# Altium footprint library user_components_lib.PcbLib: 52 footprints (part 1 of 4)
Each footprint in its own frame and in the unit in brackets; x right, y up, seen from the top. Pads: shape width x height; smd on the part's side, far side on the other; paste and mask are expansions set on the pad; w line width, h text height; cw(c..) or ccw(c..) is an arc to the next point about the centre after c.
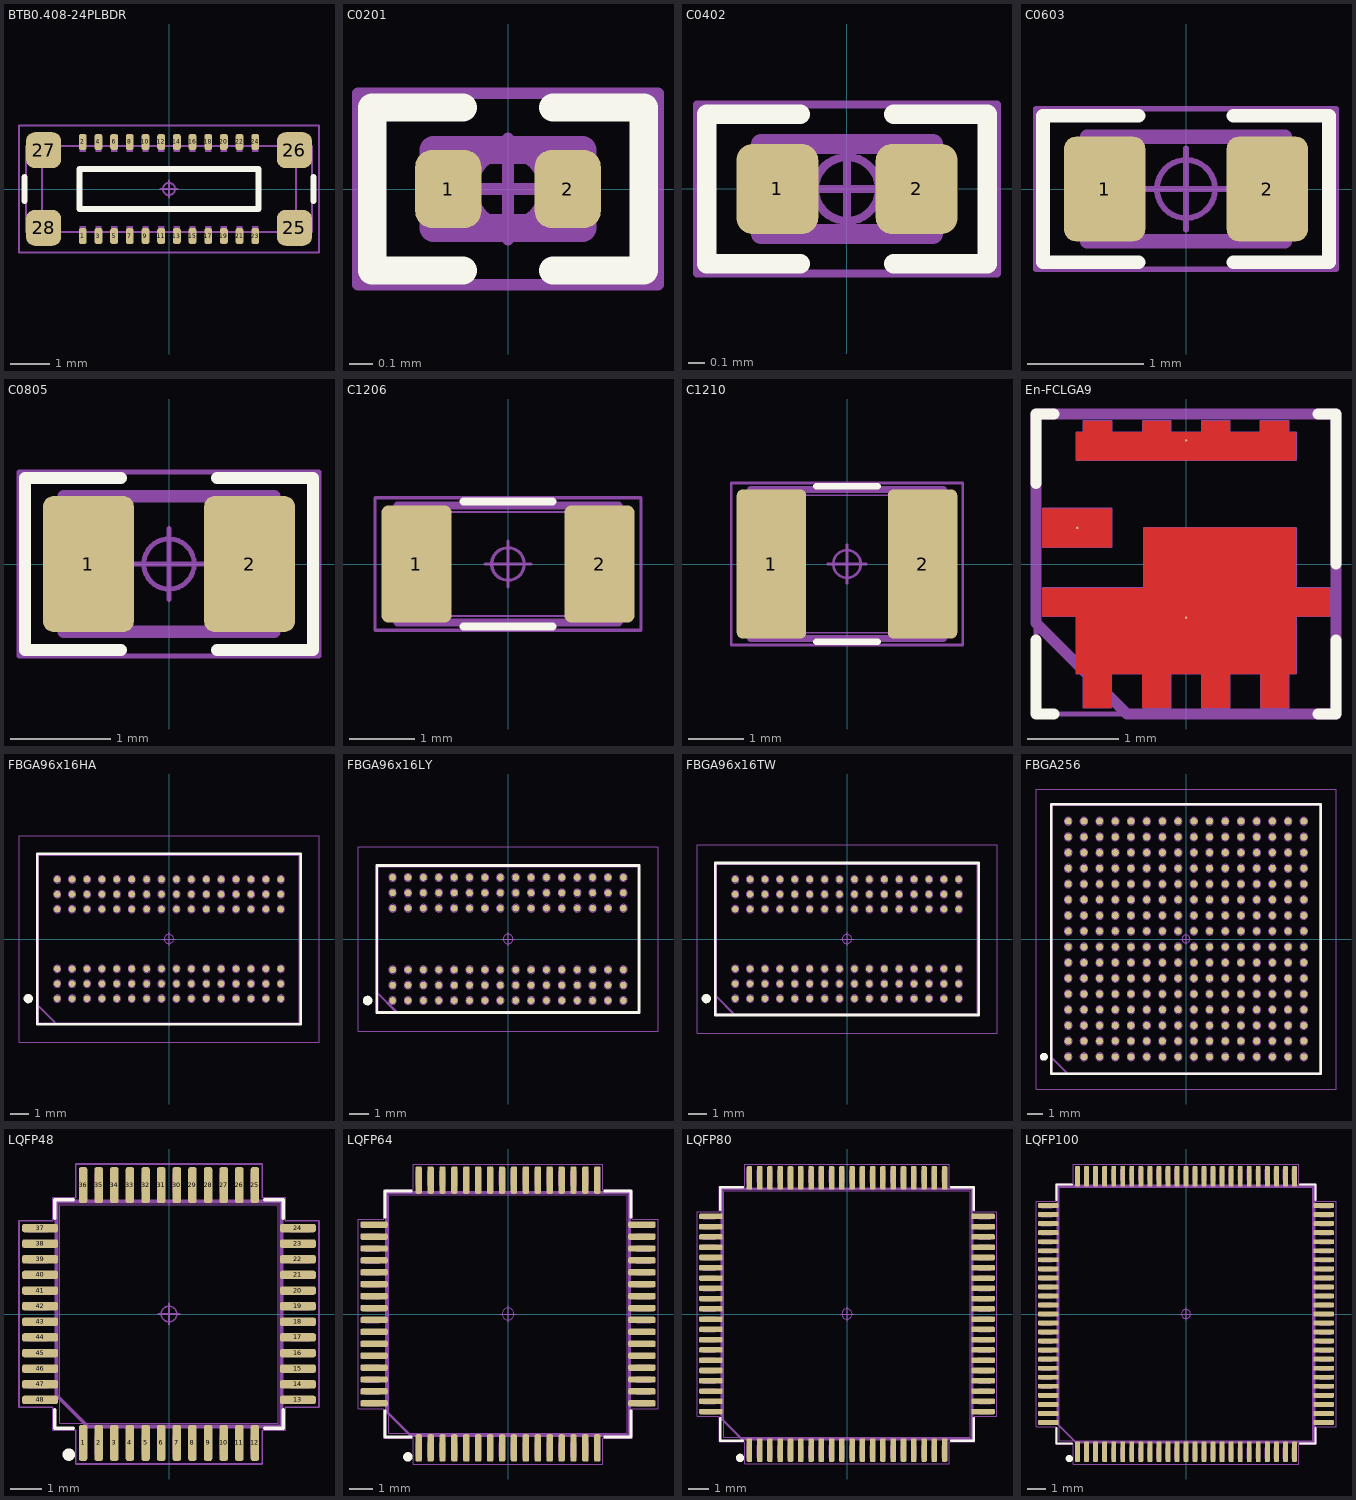
[diagram p0: the footprints below, top view; thin cyan lines are the x and y axes]

## BTB0.408-24PLBDR [mm]
pads (28):
  rrect50% 0.2x0.4 smd: 1(-2.2,-1.2) 2(-2.2,1.2) 3(-1.8,-1.2) 4(-1.8,1.2) 5(-1.4,-1.2) 6(-1.4,1.2) 7(-1,-1.2) 8(-1,1.2) 9(-0.6,-1.2) 10(-0.6,1.2) 11(-0.2,-1.2) 12(-0.2,1.2) 13(0.2,-1.2) 14(0.2,1.2) 15(0.6,-1.2) 16(0.6,1.2) 17(1,-1.2) 18(1,1.2) 19(1.4,-1.2) 20(1.4,1.2) 21(1.8,-1.2) 22(1.8,1.2) 23(2.2,-1.2) 24(2.2,1.2)
  rrect50% 0.9x0.92 smd: 25(3.2,-0.99) 26(3.2,0.99) 27(-3.2,0.99) 28(-3.2,-0.99)
Top Overlay:
  lines w0.152: -3.683,-0.301 -3.683,0.301 ; 3.683,-0.301 3.683,0.301 ; -2.286,-0.508 2.286,-0.508 2.286,0.508 -2.286,0.508 -2.286,-0.508
Mechanical 9:
  lines w0.051: -3.24,-1.1 -3.24,1.1 3.24,1.1 3.24,-1.1 -3.24,-1.1
  text ".Designator" at -1.126,-0.113 h0.5
Mechanical 11:
  text ".Designator" at -2.252,-0.226 h1
Mechanical 15:
  lines w0.05: -3.828,-0.405 -3.828,0.405 ; -3.828,-1.623 3.828,-1.623 ; -3.828,-1.623 3.828,-1.623 ; -3.828,-1.623 -3.828,1.623 3.828,1.623 3.828,-1.623
Mechanical 17:
  circle w0.05: c0,0 r0.155
  lines w0.05: -0.215,0 0.215,0 ; 0,-0.215 0,0.215
Mechanical 21:
  region: -3.25,1.24 -2.95,1.24 -2.95,0.74 -3.25,0.74
  region: -3.25,-0.74 -2.95,-0.74 -2.95,-1.24 -3.25,-1.24
  region: -2.275,0.95 -2.275,1.25 -2.125,1.25 -2.125,0.95
  region: -2.275,-1.25 -2.275,-0.95 -2.125,-0.95 -2.125,-1.25
  region: -1.875,0.95 -1.875,1.25 -1.725,1.25 -1.725,0.95
  region: -1.875,-1.25 -1.875,-0.95 -1.725,-0.95 -1.725,-1.25
  region: -1.475,0.95 -1.475,1.25 -1.325,1.25 -1.325,0.95
  region: -1.475,-1.25 -1.475,-0.95 -1.325,-0.95 -1.325,-1.25
  region: -1.075,0.95 -1.075,1.25 -0.925,1.25 -0.925,0.95
  region: -1.075,-1.25 -1.075,-0.95 -0.925,-0.95 -0.925,-1.25
  region: -0.675,0.95 -0.675,1.25 -0.525,1.25 -0.525,0.95
  region: -0.675,-1.25 -0.675,-0.95 -0.525,-0.95 -0.525,-1.25
  region: -0.275,0.95 -0.275,1.25 -0.125,1.25 -0.125,0.95
  region: -0.275,-1.25 -0.275,-0.95 -0.125,-0.95 -0.125,-1.25
  region: 0.125,0.95 0.125,1.25 0.275,1.25 0.275,0.95
  region: 0.125,-1.25 0.125,-0.95 0.275,-0.95 0.275,-1.25
  region: 0.525,0.95 0.525,1.25 0.675,1.25 0.675,0.95
  region: 0.525,-1.25 0.525,-0.95 0.675,-0.95 0.675,-1.25
  region: 0.925,0.95 0.925,1.25 1.075,1.25 1.075,0.95
  region: 0.925,-1.25 0.925,-0.95 1.075,-0.95 1.075,-1.25
  region: 1.325,0.95 1.325,1.25 1.475,1.25 1.475,0.95
  region: 1.325,-1.25 1.325,-0.95 1.475,-0.95 1.475,-1.25
  region: 1.725,0.95 1.725,1.25 1.875,1.25 1.875,0.95
  region: 1.725,-1.25 1.725,-0.95 1.875,-0.95 1.875,-1.25
  region: 2.125,0.95 2.125,1.25 2.275,1.25 2.275,0.95
  region: 2.125,-1.25 2.125,-0.95 2.275,-0.95 2.275,-1.25
  region: 2.95,-0.74 3.25,-0.74 3.25,-1.24 2.95,-1.24
  region: 2.95,1.24 3.25,1.24 3.25,0.74 2.95,0.74
  lines w0.051: -3.65,-1.1 -3.65,1.1 3.65,1.1 3.65,-1.1 -3.65,-1.1
3D body "BTB0.408-24PLBDR.STEP": height 0.81, standoff 0, extent -3.65,-1.25 3.65,1.25

## C0201 [mm]
height 0.33
pads (2):
  rrect50% 0.28x0.33 smd: 1(-0.253,0) 2(0.253,0)
Top Overlay:
  lines w0.12: -0.192,-0.345 -0.575,-0.345 -0.575,0.345 -0.192,0.345 ; 0.192,-0.345 0.575,-0.345 0.575,0.345 0.192,0.345
Mechanical 9:
  lines w0.12: -0.315,-0.165 0.315,-0.165 0.315,0.165 -0.315,0.165 -0.315,-0.165
  text ".Designator" at -1.126,-0.113 h0.5
Mechanical 11:
  text ".Designator" at -2.252,-0.226 h1
Mechanical 15:
  lines w0.05: -0.635,-0.405 0.635,-0.405 0.635,0.405 -0.635,0.405 -0.635,-0.405
Mechanical 17:
  circle w0.05: c0,0 r0.155
  lines w0.05: -0.215,0 0.215,0 ; 0,-0.215 0,0.215
Mechanical 21:
  lines w0.025: -0.3,-0.15 0.3,-0.15 ; -0.3,-0.15 -0.3,0.15 ; -0.3,-0.15 -0.3,0.15 ; -0.3,-0.15 -0.15,-0.15 -0.15,0.15 -0.3,0.15 ; -0.3,0.15 0.3,0.15 ; 0.3,-0.15 0.3,0.15 ; 0.3,-0.15 0.15,-0.15 0.15,0.15 0.3,0.15 ; 0.3,-0.15 0.3,0.15
3D body "C0201.STEP": height 0.33, standoff 0, extent -0.3,-0.15 0.3,0.15

## C0402 [mm]
height 0.55
pads (2):
  rrect40% 0.5x0.55 smd: 1(-0.425,0) 2(0.425,0)
Top Overlay:
  lines w0.12: -0.285,-0.455 -0.855,-0.455 -0.855,0.455 -0.285,0.455 ; 0.285,-0.455 0.855,-0.455 0.855,0.455 0.285,0.455
Mechanical 9:
  lines w0.12: -0.525,-0.275 -0.525,0.275 0.525,0.275 0.525,-0.275 -0.525,-0.275
  text ".Designator" at -1.126,-0.113 h0.5
Mechanical 11:
  text ".Designator" at -2.252,-0.226 h1
Mechanical 15:
  lines w0.05: -0.915,-0.515 -0.915,0.515 0.915,0.515 0.915,-0.515 -0.915,-0.515
Mechanical 17:
  circle w0.05: c0,0 r0.195
  lines w0.05: -0.27,0 0.27,0 ; 0,-0.27 0,0.27
Mechanical 21:
  lines w0.025: -0.5,-0.25 -0.25,-0.25 -0.25,0.25 -0.5,0.25 ; -0.5,-0.25 -0.5,0.25 ; -0.5,-0.25 -0.5,0.25 ; -0.5,-0.25 0.5,-0.25 ; -0.5,0.25 0.5,0.25 ; 0.5,-0.25 0.5,0.25 ; 0.5,-0.25 0.25,-0.25 0.25,0.25 0.5,0.25 ; 0.5,-0.25 0.5,0.25
3D body "C0402.STEP": height 0.55, standoff 0, extent -0.5,-0.25 0.5,0.25

## C0603 [mm]
height 0.9
pads (2):
  rrect29% 0.7x0.9 smd: 1(-0.7,0) 2(0.7,0)
Top Overlay:
  lines w0.12: -0.41,-0.63 -1.23,-0.63 -1.23,0.63 -0.41,0.63 ; 0.41,-0.63 1.23,-0.63 1.23,0.63 0.41,0.63
Mechanical 9:
  lines w0.12: -0.85,-0.45 -0.85,0.45 0.85,0.45 0.85,-0.45 -0.85,-0.45
  text ".Designator" at -1.126,-0.113 h0.5
Mechanical 11:
  text ".Designator" at -2.252,-0.226 h1
Mechanical 15:
  lines w0.05: -1.29,-0.69 -1.29,0.69 1.29,0.69 1.29,-0.69 -1.29,-0.69
Mechanical 17:
  circle w0.05: c0,0 r0.25
  lines w0.05: -0.35,0 0.35,0 ; 0,-0.35 0,0.35
Mechanical 21:
  lines w0.025: -0.8,-0.4 -0.5,-0.4 -0.5,0.4 -0.8,0.4 ; -0.8,-0.4 -0.8,0.4 ; -0.8,-0.4 -0.8,0.4 ; -0.8,-0.4 0.8,-0.4 ; -0.8,0.4 0.8,0.4 ; 0.8,-0.4 0.8,0.4 ; 0.8,-0.4 0.5,-0.4 0.5,0.4 0.8,0.4 ; 0.8,-0.4 0.8,0.4
3D body "C0603.STEP": height 0.9, standoff 0, extent -0.8,-0.4 0.8,0.4

## C0805 [mm]
height 1.35
pads (2):
  rrect22% 0.9x1.35 smd: 1(-0.8,0) 2(0.8,0)
Top Overlay:
  lines w0.12: -0.477,-0.855 -1.43,-0.855 -1.43,0.855 -0.477,0.855 ; 0.477,-0.855 1.43,-0.855 1.43,0.855 0.477,0.855
Mechanical 9:
  lines w0.12: -1.05,-0.675 1.05,-0.675 1.05,0.675 -1.05,0.675 -1.05,-0.675
  text ".Designator" at -1.961,-0.197 h0.87
Mechanical 11:
  text ".Designator" at -2.252,-0.226 h1
Mechanical 15:
  lines w0.05: -1.49,-0.915 1.49,-0.915 1.49,0.915 -1.49,0.915 -1.49,-0.915
Mechanical 17:
  circle w0.05: c0,0 r0.25
  lines w0.05: -0.35,0 0.35,0 ; 0,-0.35 0,0.35
Mechanical 21:
  lines w0.025: -1,-0.625 1,-0.625 ; -1,-0.625 -1,0.625 ; -1,-0.625 -1,0.625 ; -1,-0.625 -0.5,-0.625 -0.5,0.625 -1,0.625 ; -1,0.625 1,0.625 ; 1,-0.625 1,0.625 ; 1,-0.625 0.5,-0.625 0.5,0.625 1,0.625 ; 1,-0.625 1,0.625
3D body "C0805.STEP": height 1.35, standoff 0, extent -1,-0.625 1,0.625

## C1206 [mm]
height 1.8
pads (2):
  rrect19% 1.08x1.8 smd: 1(-1.408,0) 2(1.408,0)
Top Overlay:
  lines w0.12: -0.686,-0.96 0.686,-0.96 ; -0.686,0.96 0.686,0.96
Mechanical 9:
  lines w0.12: -1.7,-0.9 -1.7,0.9 1.7,0.9 1.7,-0.9 -1.7,-0.9
  text ".Designator" at -2.976,-0.299 h1.32
Mechanical 11:
  text ".Designator" at -2.252,-0.226 h1
Mechanical 15:
  lines w0.05: -2.048,-1.02 -2.048,1.02 2.048,1.02 2.048,-1.02 -2.048,-1.02
Mechanical 17:
  circle w0.05: c0,0 r0.25
  lines w0.05: -0.35,0 0.35,0 ; 0,-0.35 0,0.35
Mechanical 21:
  lines w0.025: -1.6,-0.8 -1.1,-0.8 -1.1,0.8 -1.6,0.8 ; -1.6,-0.8 -1.6,0.8 ; -1.6,-0.8 -1.6,0.8 ; -1.6,-0.8 1.6,-0.8 ; -1.6,0.8 1.6,0.8 ; 1.6,-0.8 1.6,0.8 ; 1.6,-0.8 1.1,-0.8 1.1,0.8 1.6,0.8 ; 1.6,-0.8 1.6,0.8
3D body "C1206.STEP": height 1.8, standoff 0, extent -1.6,-0.8 1.6,0.8

## C1210 [mm]
height 2.7
pads (2):
  rrect16% 1.26x2.7 smd: 1(-1.37,0) 2(1.37,0)
Top Overlay:
  lines w0.12: -0.56,-1.41 0.56,-1.41 ; -0.56,1.41 0.56,1.41
Mechanical 9:
  lines w0.12: -1.75,-1.35 -1.75,1.35 1.75,1.35 1.75,-1.35 -1.75,-1.35
  text ".Designator" at -4.511,-0.453 h2
Mechanical 11:
  text ".Designator" at -2.252,-0.226 h1
Mechanical 15:
  lines w0.05: -2.1,-1.47 -2.1,1.47 2.1,1.47 2.1,-1.47 -2.1,-1.47
Mechanical 17:
  circle w0.05: c0,0 r0.25
  lines w0.05: -0.35,0 0.35,0 ; 0,-0.35 0,0.35
Mechanical 21:
  lines w0.025: -1.6,-1.25 -1,-1.25 -1,1.25 -1.6,1.25 ; -1.6,-1.25 -1.6,1.25 ; -1.6,-1.25 -1.6,1.25 ; -1.6,-1.25 1.6,-1.25 ; -1.6,1.25 1.6,1.25 ; 1.6,-1.25 1.6,1.25 ; 1.6,-1.25 1,-1.25 1,1.25 1.6,1.25 ; 1.6,-1.25 1.6,1.25
3D body "C1210.STEP": height 2.7, standoff 0, extent -1.6,-1.25 1.6,1.25

## En-FCLGA9 [mil]
pads (3):
  round 1 smd: D(0,53.64) G(-47.15,15.75) S(0,-23.13)
Top Layer:
  region: -62.01,24.02 -32.28,24.02 -32.28,7.48 -62.01,7.48
  region: -18.14,15.75 -18.14,-10.43 -62.01,-10.43 -62.01,-22.24 -47.44,-22.24 -47.44,-47.24 -44.29,-47.24 -44.29,-62.01 -32.48,-62.01 -32.48,-47.24 -18.7,-47.24 -18.7,-62.01 -6.89,-62.01 -6.89,-47.24 6.89,-47.24 6.89,-62.01 18.7,-62.01 18.7,-47.24 32.48,-47.24 32.48,-62.01 44.29,-62.01 44.29,-47.24 47.44,-47.24 47.44,-22.24 62.01,-22.24 62.01,-10.43 47.44,-10.43 47.44,15.75
  region: -44.29,62.01 -44.29,57.09 -47.44,57.09 -47.44,45.28 47.44,45.28 47.44,57.09 44.29,57.09 44.29,62.01 32.28,62.01 32.28,57.09 18.7,57.09 18.7,62.01 6.89,62.01 6.89,57.09 -6.89,57.09 -6.89,62.01 -18.7,62.01 -18.7,57.09 -32.28,57.09 -32.28,62.01
  lines w0.5: -62.01,-22.24 -47.44,-22.24 -47.44,-47.24 -44.29,-47.24 -44.29,-62.01 -32.48,-62.01 -32.48,-47.24 -18.7,-47.24 -18.7,-62.01 -6.89,-62.01 -6.89,-47.24 6.89,-47.24 6.89,-62.01 18.7,-62.01 18.7,-47.24 32.48,-47.24 32.48,-62.01 44.29,-62.01 44.29,-47.24 47.44,-47.24 47.44,-22.24 62.01,-22.24 62.01,-10.43 47.44,-10.43 47.44,15.75 -18.14,15.75 -18.14,-10.43 -62.01,-10.43 -62.01,-22.24 ; -62.01,7.48 -32.28,7.48 -32.28,24.02 -62.01,24.02 -62.01,7.48 ; -47.44,45.28 47.44,45.28 47.44,57.09 44.29,57.09 44.29,62.01 32.28,62.01 32.28,57.09 18.7,57.09 18.7,62.01 6.89,62.01 6.89,57.09 -6.89,57.09 -6.89,62.01 -18.7,62.01 -18.7,57.09 -32.28,57.09 -32.28,62.01 -44.29,62.01 -44.29,57.09 -47.44,57.09 -47.44,45.28
Top Overlay:
  lines w4.72: -65.01,-32.79 -65.01,-64.85 -57.18,-64.85 ; -65.01,34.95 -65.01,65.07 -57.18,65.07 ; 57.09,-64.85 64.92,-64.85 64.92,-32.79 ; 57.09,65.07 64.92,65.07 64.92,0.11
Mechanical 9:
  lines w4.72: -65.01,-25.48 -65.01,65.07 64.92,65.07 64.92,-64.85 -25.64,-64.85 -65.01,-25.48
  text ".Designator" at -88.67,-8.9 h39.37
Mechanical 11:
  text ".Designator" at -88.67,-8.9 h39.37
Mechanical 15:
  lines w1.97: -65.01,-64.85 -65.01,65.07 64.92,65.07 64.92,-64.85 -65.01,-64.85
Mechanical 17:
  circle w1.97: c0,0 r9.84
  lines w1.97: -13.78,0 13.78,0 ; 0,-13.78 0,13.78
Mechanical 21:
  lines w0.98: -65.01,-64.85 -65.01,65.07 64.92,65.07 64.92,-64.85 -65.01,-64.85 ; -62.01,-22.24 -62.01,-10.43 -18.14,-10.43 -18.14,15.75 47.44,15.75 47.44,-10.43 62.01,-10.43 62.01,-22.24 47.44,-22.24 47.44,-47.24 44.29,-47.24 44.29,-62.01 32.48,-62.01 32.48,-47.24 18.7,-47.24 18.7,-62.01 6.89,-62.01 6.89,-47.24 -6.89,-47.24 -6.89,-62.01 -18.7,-62.01 -18.7,-47.24 -32.48,-47.24 -32.48,-62.01 -44.29,-62.01 -44.29,-47.24 -47.44,-47.24 -47.44,-22.24 -62.01,-22.24 ; -62.01,7.48 -62.01,24.02 -32.28,24.02 -32.28,7.48 -62.01,7.48 ; -47.44,45.28 -47.44,57.09 -44.29,57.09 -44.29,62.01 -32.28,62.01 -32.28,57.09 -18.7,57.09 -18.7,62.01 -6.89,62.01 -6.89,57.09 6.89,57.09 6.89,62.01 18.7,62.01 18.7,57.09 32.28,57.09 32.28,62.01 44.29,62.01 44.29,57.09 47.44,57.09 47.44,45.28 -47.44,45.28
3D body "En-FCLGA9.STEP": height 38.39, standoff 0.2, extent -65.55,-64.96 64.37,64.96

## FBGA96x16HA [mm] "Ball Grid Array (BGA), 0.80 mm pitch, rect.; 144 pin, 14.00 mm L X 9.00 mm W X 1.20 mm H body"
height 1.2
pads (96):
  round 0.35 smd: A1(-6,-3.2) A2(-6,-2.4) A3(-6,-1.6) A7(-6,1.6) A8(-6,2.4) A9(-6,3.2) B1(-5.2,-3.2) B2(-5.2,-2.4) B3(-5.2,-1.6) B7(-5.2,1.6) B8(-5.2,2.4) B9(-5.2,3.2) C1(-4.4,-3.2) C2(-4.4,-2.4) C3(-4.4,-1.6) C7(-4.4,1.6) C8(-4.4,2.4) C9(-4.4,3.2) D1(-3.6,-3.2) D2(-3.6,-2.4) D3(-3.6,-1.6) D7(-3.6,1.6) D8(-3.6,2.4) D9(-3.6,3.2) E1(-2.8,-3.2) E2(-2.8,-2.4) E3(-2.8,-1.6) E7(-2.8,1.6) E8(-2.8,2.4) E9(-2.8,3.2) F1(-2,-3.2) F2(-2,-2.4) F3(-2,-1.6) F7(-2,1.6) F8(-2,2.4) F9(-2,3.2) G1(-1.2,-3.2) G2(-1.2,-2.4) G3(-1.2,-1.6) G7(-1.2,1.6) G8(-1.2,2.4) G9(-1.2,3.2) H1(-0.4,-3.2) H2(-0.4,-2.4) H3(-0.4,-1.6) H7(-0.4,1.6) H8(-0.4,2.4) H9(-0.4,3.2) J1(0.4,-3.2) J2(0.4,-2.4) J3(0.4,-1.6) J7(0.4,1.6) J8(0.4,2.4) J9(0.4,3.2) K1(1.2,-3.2) K2(1.2,-2.4) K3(1.2,-1.6) K7(1.2,1.6) K8(1.2,2.4) K9(1.2,3.2) L1(2,-3.2) L2(2,-2.4) L3(2,-1.6) L7(2,1.6) L8(2,2.4) L9(2,3.2) M1(2.8,-3.2) M2(2.8,-2.4) M3(2.8,-1.6) M7(2.8,1.6) M8(2.8,2.4) M9(2.8,3.2) N1(3.6,-3.2) N2(3.6,-2.4) N3(3.6,-1.6) N7(3.6,1.6) N8(3.6,2.4) N9(3.6,3.2) P1(4.4,-3.2) P2(4.4,-2.4) P3(4.4,-1.6) P7(4.4,1.6) P8(4.4,2.4) P9(4.4,3.2) R1(5.2,-3.2) R2(5.2,-2.4) R3(5.2,-1.6) R7(5.2,1.6) R8(5.2,2.4) R9(5.2,3.2) T1(6,-3.2) T2(6,-2.4) T3(6,-1.6) T7(6,1.6) T8(6,2.4) T9(6,3.2)
Top Overlay:
  circle w0.25: c-7.55,-3.2 r0.125
  lines w0.15: -7.075,-4.575 7.075,-4.575 7.075,4.575 -7.075,4.575 -7.075,-4.575
Mechanical 9:
  lines w0.12: -7.05,-3.55 -7.05,4.55 7.05,4.55 7.05,-4.55 -6.05,-4.55 -7.05,-3.55
  text ".Designator" at -4.511,-0.453 h2
Mechanical 11:
  text ".Designator" at -2.704,-0.271 h1.2
Mechanical 15:
  lines w0.05: -8.05,-5.55 8.05,-5.55 8.05,5.55 -8.05,5.55 -8.05,-5.55
Mechanical 17:
  circle w0.05: c0,0 r0.25
  lines w0.05: -0.35,0 0.35,0 ; 0,-0.35 0,0.35
Mechanical 21:
  circle w0.025: c6,3.2 r0.2
  circle w0.025: c6,2.4 r0.2
  circle w0.025: c6,1.6 r0.2
  circle w0.025: c6,-1.6 r0.2
  circle w0.025: c6,-2.4 r0.2
  circle w0.025: c6,-3.2 r0.2
  circle w0.025: c5.2,3.2 r0.2
  circle w0.025: c5.2,2.4 r0.2
  circle w0.025: c5.2,1.6 r0.2
  circle w0.025: c5.2,-1.6 r0.2
  circle w0.025: c5.2,-2.4 r0.2
  circle w0.025: c5.2,-3.2 r0.2
  circle w0.025: c4.4,3.2 r0.2
  circle w0.025: c4.4,2.4 r0.2
  circle w0.025: c4.4,1.6 r0.2
  circle w0.025: c4.4,-1.6 r0.2
  circle w0.025: c4.4,-2.4 r0.2
  circle w0.025: c4.4,-3.2 r0.2
  circle w0.025: c3.6,3.2 r0.2
  circle w0.025: c3.6,2.4 r0.2
  circle w0.025: c3.6,1.6 r0.2
  circle w0.025: c3.6,-1.6 r0.2
  circle w0.025: c3.6,-2.4 r0.2
  circle w0.025: c3.6,-3.2 r0.2
  circle w0.025: c2.8,3.2 r0.2
  circle w0.025: c2.8,2.4 r0.2
  circle w0.025: c2.8,1.6 r0.2
  circle w0.025: c2.8,-1.6 r0.2
  circle w0.025: c2.8,-2.4 r0.2
  circle w0.025: c2.8,-3.2 r0.2
  circle w0.025: c2,3.2 r0.2
  circle w0.025: c2,2.4 r0.2
  circle w0.025: c2,1.6 r0.2
  circle w0.025: c2,-1.6 r0.2
  circle w0.025: c2,-2.4 r0.2
  circle w0.025: c2,-3.2 r0.2
  circle w0.025: c1.2,3.2 r0.2
  circle w0.025: c1.2,2.4 r0.2
  circle w0.025: c1.2,1.6 r0.2
  circle w0.025: c1.2,-1.6 r0.2
  circle w0.025: c1.2,-2.4 r0.2
  circle w0.025: c1.2,-3.2 r0.2
  circle w0.025: c0.4,3.2 r0.2
  circle w0.025: c0.4,2.4 r0.2
  circle w0.025: c0.4,1.6 r0.2
  circle w0.025: c0.4,-1.6 r0.2
  circle w0.025: c0.4,-2.4 r0.2
  circle w0.025: c0.4,-3.2 r0.2
  circle w0.025: c-0.4,3.2 r0.2
  circle w0.025: c-0.4,2.4 r0.2
  circle w0.025: c-0.4,1.6 r0.2
  circle w0.025: c-0.4,-1.6 r0.2
  circle w0.025: c-0.4,-2.4 r0.2
  circle w0.025: c-0.4,-3.2 r0.2
  circle w0.025: c-1.2,3.2 r0.2
  circle w0.025: c-1.2,2.4 r0.2
  circle w0.025: c-1.2,1.6 r0.2
  circle w0.025: c-1.2,-1.6 r0.2
  circle w0.025: c-1.2,-2.4 r0.2
  circle w0.025: c-1.2,-3.2 r0.2
  circle w0.025: c-2,3.2 r0.2
  circle w0.025: c-2,2.4 r0.2
  circle w0.025: c-2,1.6 r0.2
  circle w0.025: c-2,-1.6 r0.2
  circle w0.025: c-2,-2.4 r0.2
  circle w0.025: c-2,-3.2 r0.2
  circle w0.025: c-2.8,3.2 r0.2
  circle w0.025: c-2.8,2.4 r0.2
  circle w0.025: c-2.8,1.6 r0.2
  circle w0.025: c-2.8,-1.6 r0.2
  circle w0.025: c-2.8,-2.4 r0.2
  circle w0.025: c-2.8,-3.2 r0.2
  circle w0.025: c-3.6,3.2 r0.2
  circle w0.025: c-3.6,2.4 r0.2
  circle w0.025: c-3.6,1.6 r0.2
  circle w0.025: c-3.6,-1.6 r0.2
  circle w0.025: c-3.6,-2.4 r0.2
  circle w0.025: c-3.6,-3.2 r0.2
  circle w0.025: c-4.4,3.2 r0.2
  circle w0.025: c-4.4,2.4 r0.2
  circle w0.025: c-4.4,1.6 r0.2
  circle w0.025: c-4.4,-1.6 r0.2
  circle w0.025: c-4.4,-2.4 r0.2
  circle w0.025: c-4.4,-3.2 r0.2
  circle w0.025: c-5.2,3.2 r0.2
  circle w0.025: c-5.2,2.4 r0.2
  circle w0.025: c-5.2,1.6 r0.2
  circle w0.025: c-5.2,-1.6 r0.2
  circle w0.025: c-5.2,-2.4 r0.2
  circle w0.025: c-5.2,-3.2 r0.2
  circle w0.025: c-6,3.2 r0.2
  circle w0.025: c-6,2.4 r0.2
  circle w0.025: c-6,1.6 r0.2
  circle w0.025: c-6,-1.6 r0.2
  circle w0.025: c-6,-2.4 r0.2
  circle w0.025: c-6,-3.2 r0.2
  lines w0.025: -7,-4.5 7,-4.5 7,4.5 -7,4.5 -7,-4.5
3D body "FBGA96x16HA.STEP": height 1.2, standoff 0, extent -7,-4.5 7,4.5

## FBGA96x16LY [mm] "Ball Grid Array (BGA), 0.80 mm pitch, rect.; 144 pin, 13.50 mm L X 7.50 mm W X 1.20 mm H body"
height 1.2
pads (96):
  round 0.35 smd: A1(-6,-3.2) A2(-6,-2.4) A3(-6,-1.6) A7(-6,1.6) A8(-6,2.4) A9(-6,3.2) B1(-5.2,-3.2) B2(-5.2,-2.4) B3(-5.2,-1.6) B7(-5.2,1.6) B8(-5.2,2.4) B9(-5.2,3.2) C1(-4.4,-3.2) C2(-4.4,-2.4) C3(-4.4,-1.6) C7(-4.4,1.6) C8(-4.4,2.4) C9(-4.4,3.2) D1(-3.6,-3.2) D2(-3.6,-2.4) D3(-3.6,-1.6) D7(-3.6,1.6) D8(-3.6,2.4) D9(-3.6,3.2) E1(-2.8,-3.2) E2(-2.8,-2.4) E3(-2.8,-1.6) E7(-2.8,1.6) E8(-2.8,2.4) E9(-2.8,3.2) F1(-2,-3.2) F2(-2,-2.4) F3(-2,-1.6) F7(-2,1.6) F8(-2,2.4) F9(-2,3.2) G1(-1.2,-3.2) G2(-1.2,-2.4) G3(-1.2,-1.6) G7(-1.2,1.6) G8(-1.2,2.4) G9(-1.2,3.2) H1(-0.4,-3.2) H2(-0.4,-2.4) H3(-0.4,-1.6) H7(-0.4,1.6) H8(-0.4,2.4) H9(-0.4,3.2) J1(0.4,-3.2) J2(0.4,-2.4) J3(0.4,-1.6) J7(0.4,1.6) J8(0.4,2.4) J9(0.4,3.2) K1(1.2,-3.2) K2(1.2,-2.4) K3(1.2,-1.6) K7(1.2,1.6) K8(1.2,2.4) K9(1.2,3.2) L1(2,-3.2) L2(2,-2.4) L3(2,-1.6) L7(2,1.6) L8(2,2.4) L9(2,3.2) M1(2.8,-3.2) M2(2.8,-2.4) M3(2.8,-1.6) M7(2.8,1.6) M8(2.8,2.4) M9(2.8,3.2) N1(3.6,-3.2) N2(3.6,-2.4) N3(3.6,-1.6) N7(3.6,1.6) N8(3.6,2.4) N9(3.6,3.2) P1(4.4,-3.2) P2(4.4,-2.4) P3(4.4,-1.6) P7(4.4,1.6) P8(4.4,2.4) P9(4.4,3.2) R1(5.2,-3.2) R2(5.2,-2.4) R3(5.2,-1.6) R7(5.2,1.6) R8(5.2,2.4) R9(5.2,3.2) T1(6,-3.2) T2(6,-2.4) T3(6,-1.6) T7(6,1.6) T8(6,2.4) T9(6,3.2)
Top Overlay:
  circle w0.25: c-7.3,-3.2 r0.125
  lines w0.15: -6.825,-3.825 6.825,-3.825 6.825,3.825 -6.825,3.825 -6.825,-3.825
Mechanical 9:
  lines w0.12: -6.8,-2.8 -6.8,3.8 6.8,3.8 6.8,-3.8 -5.8,-3.8 -6.8,-2.8
  text ".Designator" at -4.511,-0.453 h2
Mechanical 11:
  text ".Designator" at -2.704,-0.271 h1.2
Mechanical 15:
  lines w0.05: -7.8,-4.8 7.8,-4.8 7.8,4.8 -7.8,4.8 -7.8,-4.8
Mechanical 17:
  circle w0.05: c0,0 r0.25
  lines w0.05: -0.35,0 0.35,0 ; 0,-0.35 0,0.35
Mechanical 21:
  circle w0.025: c6,3.2 r0.2
  circle w0.025: c6,2.4 r0.2
  circle w0.025: c6,1.6 r0.2
  circle w0.025: c6,-1.6 r0.2
  circle w0.025: c6,-2.4 r0.2
  circle w0.025: c6,-3.2 r0.2
  circle w0.025: c5.2,3.2 r0.2
  circle w0.025: c5.2,2.4 r0.2
  circle w0.025: c5.2,1.6 r0.2
  circle w0.025: c5.2,-1.6 r0.2
  circle w0.025: c5.2,-2.4 r0.2
  circle w0.025: c5.2,-3.2 r0.2
  circle w0.025: c4.4,3.2 r0.2
  circle w0.025: c4.4,2.4 r0.2
  circle w0.025: c4.4,1.6 r0.2
  circle w0.025: c4.4,-1.6 r0.2
  circle w0.025: c4.4,-2.4 r0.2
  circle w0.025: c4.4,-3.2 r0.2
  circle w0.025: c3.6,3.2 r0.2
  circle w0.025: c3.6,2.4 r0.2
  circle w0.025: c3.6,1.6 r0.2
  circle w0.025: c3.6,-1.6 r0.2
  circle w0.025: c3.6,-2.4 r0.2
  circle w0.025: c3.6,-3.2 r0.2
  circle w0.025: c2.8,3.2 r0.2
  circle w0.025: c2.8,2.4 r0.2
  circle w0.025: c2.8,1.6 r0.2
  circle w0.025: c2.8,-1.6 r0.2
  circle w0.025: c2.8,-2.4 r0.2
  circle w0.025: c2.8,-3.2 r0.2
  circle w0.025: c2,3.2 r0.2
  circle w0.025: c2,2.4 r0.2
  circle w0.025: c2,1.6 r0.2
  circle w0.025: c2,-1.6 r0.2
  circle w0.025: c2,-2.4 r0.2
  circle w0.025: c2,-3.2 r0.2
  circle w0.025: c1.2,3.2 r0.2
  circle w0.025: c1.2,2.4 r0.2
  circle w0.025: c1.2,1.6 r0.2
  circle w0.025: c1.2,-1.6 r0.2
  circle w0.025: c1.2,-2.4 r0.2
  circle w0.025: c1.2,-3.2 r0.2
  circle w0.025: c0.4,3.2 r0.2
  circle w0.025: c0.4,2.4 r0.2
  circle w0.025: c0.4,1.6 r0.2
  circle w0.025: c0.4,-1.6 r0.2
  circle w0.025: c0.4,-2.4 r0.2
  circle w0.025: c0.4,-3.2 r0.2
  circle w0.025: c-0.4,3.2 r0.2
  circle w0.025: c-0.4,2.4 r0.2
  circle w0.025: c-0.4,1.6 r0.2
  circle w0.025: c-0.4,-1.6 r0.2
  circle w0.025: c-0.4,-2.4 r0.2
  circle w0.025: c-0.4,-3.2 r0.2
  circle w0.025: c-1.2,3.2 r0.2
  circle w0.025: c-1.2,2.4 r0.2
  circle w0.025: c-1.2,1.6 r0.2
  circle w0.025: c-1.2,-1.6 r0.2
  circle w0.025: c-1.2,-2.4 r0.2
  circle w0.025: c-1.2,-3.2 r0.2
  circle w0.025: c-2,3.2 r0.2
  circle w0.025: c-2,2.4 r0.2
  circle w0.025: c-2,1.6 r0.2
  circle w0.025: c-2,-1.6 r0.2
  circle w0.025: c-2,-2.4 r0.2
  circle w0.025: c-2,-3.2 r0.2
  circle w0.025: c-2.8,3.2 r0.2
  circle w0.025: c-2.8,2.4 r0.2
  circle w0.025: c-2.8,1.6 r0.2
  circle w0.025: c-2.8,-1.6 r0.2
  circle w0.025: c-2.8,-2.4 r0.2
  circle w0.025: c-2.8,-3.2 r0.2
  circle w0.025: c-3.6,3.2 r0.2
  circle w0.025: c-3.6,2.4 r0.2
  circle w0.025: c-3.6,1.6 r0.2
  circle w0.025: c-3.6,-1.6 r0.2
  circle w0.025: c-3.6,-2.4 r0.2
  circle w0.025: c-3.6,-3.2 r0.2
  circle w0.025: c-4.4,3.2 r0.2
  circle w0.025: c-4.4,2.4 r0.2
  circle w0.025: c-4.4,1.6 r0.2
  circle w0.025: c-4.4,-1.6 r0.2
  circle w0.025: c-4.4,-2.4 r0.2
  circle w0.025: c-4.4,-3.2 r0.2
  circle w0.025: c-5.2,3.2 r0.2
  circle w0.025: c-5.2,2.4 r0.2
  circle w0.025: c-5.2,1.6 r0.2
  circle w0.025: c-5.2,-1.6 r0.2
  circle w0.025: c-5.2,-2.4 r0.2
  circle w0.025: c-5.2,-3.2 r0.2
  circle w0.025: c-6,3.2 r0.2
  circle w0.025: c-6,2.4 r0.2
  circle w0.025: c-6,1.6 r0.2
  circle w0.025: c-6,-1.6 r0.2
  circle w0.025: c-6,-2.4 r0.2
  circle w0.025: c-6,-3.2 r0.2
  lines w0.025: -6.75,-3.75 6.75,-3.75 6.75,3.75 -6.75,3.75 -6.75,-3.75
3D body "FBGA96x16LY.STEP": height 1.2, standoff 0, extent -6.75,-3.75 6.75,3.75

## FBGA96x16TW [mm] "Ball Grid Array (BGA), 0.80 mm pitch, rect.; 144 pin, 14.00 mm L X 8.00 mm W X 1.20 mm H body"
height 1.2
pads (96):
  round 0.35 smd: A1(-6,-3.2) A2(-6,-2.4) A3(-6,-1.6) A7(-6,1.6) A8(-6,2.4) A9(-6,3.2) B1(-5.2,-3.2) B2(-5.2,-2.4) B3(-5.2,-1.6) B7(-5.2,1.6) B8(-5.2,2.4) B9(-5.2,3.2) C1(-4.4,-3.2) C2(-4.4,-2.4) C3(-4.4,-1.6) C7(-4.4,1.6) C8(-4.4,2.4) C9(-4.4,3.2) D1(-3.6,-3.2) D2(-3.6,-2.4) D3(-3.6,-1.6) D7(-3.6,1.6) D8(-3.6,2.4) D9(-3.6,3.2) E1(-2.8,-3.2) E2(-2.8,-2.4) E3(-2.8,-1.6) E7(-2.8,1.6) E8(-2.8,2.4) E9(-2.8,3.2) F1(-2,-3.2) F2(-2,-2.4) F3(-2,-1.6) F7(-2,1.6) F8(-2,2.4) F9(-2,3.2) G1(-1.2,-3.2) G2(-1.2,-2.4) G3(-1.2,-1.6) G7(-1.2,1.6) G8(-1.2,2.4) G9(-1.2,3.2) H1(-0.4,-3.2) H2(-0.4,-2.4) H3(-0.4,-1.6) H7(-0.4,1.6) H8(-0.4,2.4) H9(-0.4,3.2) J1(0.4,-3.2) J2(0.4,-2.4) J3(0.4,-1.6) J7(0.4,1.6) J8(0.4,2.4) J9(0.4,3.2) K1(1.2,-3.2) K2(1.2,-2.4) K3(1.2,-1.6) K7(1.2,1.6) K8(1.2,2.4) K9(1.2,3.2) L1(2,-3.2) L2(2,-2.4) L3(2,-1.6) L7(2,1.6) L8(2,2.4) L9(2,3.2) M1(2.8,-3.2) M2(2.8,-2.4) M3(2.8,-1.6) M7(2.8,1.6) M8(2.8,2.4) M9(2.8,3.2) N1(3.6,-3.2) N2(3.6,-2.4) N3(3.6,-1.6) N7(3.6,1.6) N8(3.6,2.4) N9(3.6,3.2) P1(4.4,-3.2) P2(4.4,-2.4) P3(4.4,-1.6) P7(4.4,1.6) P8(4.4,2.4) P9(4.4,3.2) R1(5.2,-3.2) R2(5.2,-2.4) R3(5.2,-1.6) R7(5.2,1.6) R8(5.2,2.4) R9(5.2,3.2) T1(6,-3.2) T2(6,-2.4) T3(6,-1.6) T7(6,1.6) T8(6,2.4) T9(6,3.2)
Top Overlay:
  circle w0.25: c-7.55,-3.2 r0.125
  lines w0.15: -7.075,-4.075 7.075,-4.075 7.075,4.075 -7.075,4.075 -7.075,-4.075
Mechanical 9:
  lines w0.12: -7.05,-3.05 -7.05,4.05 7.05,4.05 7.05,-4.05 -6.05,-4.05 -7.05,-3.05
  text ".Designator" at -4.511,-0.453 h2
Mechanical 11:
  text ".Designator" at -2.704,-0.271 h1.2
Mechanical 15:
  lines w0.05: -8.05,-5.05 8.05,-5.05 8.05,5.05 -8.05,5.05 -8.05,-5.05
Mechanical 17:
  circle w0.05: c0,0 r0.25
  lines w0.05: -0.35,0 0.35,0 ; 0,-0.35 0,0.35
Mechanical 21:
  circle w0.025: c6,3.2 r0.2
  circle w0.025: c6,2.4 r0.2
  circle w0.025: c6,1.6 r0.2
  circle w0.025: c6,-1.6 r0.2
  circle w0.025: c6,-2.4 r0.2
  circle w0.025: c6,-3.2 r0.2
  circle w0.025: c5.2,3.2 r0.2
  circle w0.025: c5.2,2.4 r0.2
  circle w0.025: c5.2,1.6 r0.2
  circle w0.025: c5.2,-1.6 r0.2
  circle w0.025: c5.2,-2.4 r0.2
  circle w0.025: c5.2,-3.2 r0.2
  circle w0.025: c4.4,3.2 r0.2
  circle w0.025: c4.4,2.4 r0.2
  circle w0.025: c4.4,1.6 r0.2
  circle w0.025: c4.4,-1.6 r0.2
  circle w0.025: c4.4,-2.4 r0.2
  circle w0.025: c4.4,-3.2 r0.2
  circle w0.025: c3.6,3.2 r0.2
  circle w0.025: c3.6,2.4 r0.2
  circle w0.025: c3.6,1.6 r0.2
  circle w0.025: c3.6,-1.6 r0.2
  circle w0.025: c3.6,-2.4 r0.2
  circle w0.025: c3.6,-3.2 r0.2
  circle w0.025: c2.8,3.2 r0.2
  circle w0.025: c2.8,2.4 r0.2
  circle w0.025: c2.8,1.6 r0.2
  circle w0.025: c2.8,-1.6 r0.2
  circle w0.025: c2.8,-2.4 r0.2
  circle w0.025: c2.8,-3.2 r0.2
  circle w0.025: c2,3.2 r0.2
  circle w0.025: c2,2.4 r0.2
  circle w0.025: c2,1.6 r0.2
  circle w0.025: c2,-1.6 r0.2
  circle w0.025: c2,-2.4 r0.2
  circle w0.025: c2,-3.2 r0.2
  circle w0.025: c1.2,3.2 r0.2
  circle w0.025: c1.2,2.4 r0.2
  circle w0.025: c1.2,1.6 r0.2
  circle w0.025: c1.2,-1.6 r0.2
  circle w0.025: c1.2,-2.4 r0.2
  circle w0.025: c1.2,-3.2 r0.2
  circle w0.025: c0.4,3.2 r0.2
  circle w0.025: c0.4,2.4 r0.2
  circle w0.025: c0.4,1.6 r0.2
  circle w0.025: c0.4,-1.6 r0.2
  circle w0.025: c0.4,-2.4 r0.2
  circle w0.025: c0.4,-3.2 r0.2
  circle w0.025: c-0.4,3.2 r0.2
  circle w0.025: c-0.4,2.4 r0.2
  circle w0.025: c-0.4,1.6 r0.2
  circle w0.025: c-0.4,-1.6 r0.2
  circle w0.025: c-0.4,-2.4 r0.2
  circle w0.025: c-0.4,-3.2 r0.2
  circle w0.025: c-1.2,3.2 r0.2
  circle w0.025: c-1.2,2.4 r0.2
  circle w0.025: c-1.2,1.6 r0.2
  circle w0.025: c-1.2,-1.6 r0.2
  circle w0.025: c-1.2,-2.4 r0.2
  circle w0.025: c-1.2,-3.2 r0.2
  circle w0.025: c-2,3.2 r0.2
  circle w0.025: c-2,2.4 r0.2
  circle w0.025: c-2,1.6 r0.2
  circle w0.025: c-2,-1.6 r0.2
  circle w0.025: c-2,-2.4 r0.2
  circle w0.025: c-2,-3.2 r0.2
  circle w0.025: c-2.8,3.2 r0.2
  circle w0.025: c-2.8,2.4 r0.2
  circle w0.025: c-2.8,1.6 r0.2
  circle w0.025: c-2.8,-1.6 r0.2
  circle w0.025: c-2.8,-2.4 r0.2
  circle w0.025: c-2.8,-3.2 r0.2
  circle w0.025: c-3.6,3.2 r0.2
  circle w0.025: c-3.6,2.4 r0.2
  circle w0.025: c-3.6,1.6 r0.2
  circle w0.025: c-3.6,-1.6 r0.2
  circle w0.025: c-3.6,-2.4 r0.2
  circle w0.025: c-3.6,-3.2 r0.2
  circle w0.025: c-4.4,3.2 r0.2
  circle w0.025: c-4.4,2.4 r0.2
  circle w0.025: c-4.4,1.6 r0.2
  circle w0.025: c-4.4,-1.6 r0.2
  circle w0.025: c-4.4,-2.4 r0.2
  circle w0.025: c-4.4,-3.2 r0.2
  circle w0.025: c-5.2,3.2 r0.2
  circle w0.025: c-5.2,2.4 r0.2
  circle w0.025: c-5.2,1.6 r0.2
  circle w0.025: c-5.2,-1.6 r0.2
  circle w0.025: c-5.2,-2.4 r0.2
  circle w0.025: c-5.2,-3.2 r0.2
  circle w0.025: c-6,3.2 r0.2
  circle w0.025: c-6,2.4 r0.2
  circle w0.025: c-6,1.6 r0.2
  circle w0.025: c-6,-1.6 r0.2
  circle w0.025: c-6,-2.4 r0.2
  circle w0.025: c-6,-3.2 r0.2
  lines w0.025: -7,-4 7,-4 7,4 -7,4 -7,-4
3D body "FBGA96x16TW.STEP": height 1.2, standoff 0, extent -7,-4 7,4

## FBGA256 [mm] "Ball Grid Array (BGA), 1.00 mm pitch, square; 256 pin, 17.00 mm L X 17.00 mm W X 1.55 mm H body"
height 1.55
pads (256):
  round 0.45 smd: A1(-7.5,-7.5) A2(-7.5,-6.5) A3(-7.5,-5.5) A4(-7.5,-4.5) A5(-7.5,-3.5) A6(-7.5,-2.5) A7(-7.5,-1.5) A8(-7.5,-0.5) A9(-7.5,0.5) A10(-7.5,1.5) A11(-7.5,2.5) A12(-7.5,3.5) A13(-7.5,4.5) A14(-7.5,5.5) A15(-7.5,6.5) A16(-7.5,7.5) B1(-6.5,-7.5) B2(-6.5,-6.5) B3(-6.5,-5.5) B4(-6.5,-4.5) B5(-6.5,-3.5) B6(-6.5,-2.5) B7(-6.5,-1.5) B8(-6.5,-0.5) B9(-6.5,0.5) B10(-6.5,1.5) B11(-6.5,2.5) B12(-6.5,3.5) B13(-6.5,4.5) B14(-6.5,5.5) B15(-6.5,6.5) B16(-6.5,7.5) C1(-5.5,-7.5) C2(-5.5,-6.5) C3(-5.5,-5.5) C4(-5.5,-4.5) C5(-5.5,-3.5) C6(-5.5,-2.5) C7(-5.5,-1.5) C8(-5.5,-0.5) C9(-5.5,0.5) C10(-5.5,1.5) C11(-5.5,2.5) C12(-5.5,3.5) C13(-5.5,4.5) C14(-5.5,5.5) C15(-5.5,6.5) C16(-5.5,7.5) D1(-4.5,-7.5) D2(-4.5,-6.5) D3(-4.5,-5.5) D4(-4.5,-4.5) D5(-4.5,-3.5) D6(-4.5,-2.5) D7(-4.5,-1.5) D8(-4.5,-0.5) D9(-4.5,0.5) D10(-4.5,1.5) D11(-4.5,2.5) D12(-4.5,3.5) D13(-4.5,4.5) D14(-4.5,5.5) D15(-4.5,6.5) D16(-4.5,7.5) E1(-3.5,-7.5) E2(-3.5,-6.5) E3(-3.5,-5.5) E4(-3.5,-4.5) E5(-3.5,-3.5) E6(-3.5,-2.5) E7(-3.5,-1.5) E8(-3.5,-0.5) E9(-3.5,0.5) E10(-3.5,1.5) E11(-3.5,2.5) E12(-3.5,3.5) E13(-3.5,4.5) E14(-3.5,5.5) E15(-3.5,6.5) E16(-3.5,7.5) F1(-2.5,-7.5) F2(-2.5,-6.5) F3(-2.5,-5.5) F4(-2.5,-4.5) F5(-2.5,-3.5) F6(-2.5,-2.5) F7(-2.5,-1.5) F8(-2.5,-0.5) F9(-2.5,0.5) F10(-2.5,1.5) F11(-2.5,2.5) F12(-2.5,3.5) F13(-2.5,4.5) F14(-2.5,5.5) F15(-2.5,6.5) F16(-2.5,7.5) G1(-1.5,-7.5) G2(-1.5,-6.5) G3(-1.5,-5.5) G4(-1.5,-4.5) G5(-1.5,-3.5) G6(-1.5,-2.5) G7(-1.5,-1.5) G8(-1.5,-0.5) G9(-1.5,0.5) G10(-1.5,1.5) G11(-1.5,2.5) G12(-1.5,3.5) G13(-1.5,4.5) G14(-1.5,5.5) G15(-1.5,6.5) G16(-1.5,7.5) H1(-0.5,-7.5) H2(-0.5,-6.5) H3(-0.5,-5.5) H4(-0.5,-4.5) H5(-0.5,-3.5) H6(-0.5,-2.5) H7(-0.5,-1.5) H8(-0.5,-0.5) H9(-0.5,0.5) H10(-0.5,1.5) H11(-0.5,2.5) H12(-0.5,3.5) H13(-0.5,4.5) H14(-0.5,5.5) H15(-0.5,6.5) H16(-0.5,7.5) J1(0.5,-7.5) J2(0.5,-6.5) J3(0.5,-5.5) J4(0.5,-4.5) J5(0.5,-3.5) J6(0.5,-2.5) J7(0.5,-1.5) J8(0.5,-0.5) J9(0.5,0.5) J10(0.5,1.5) J11(0.5,2.5) J12(0.5,3.5) J13(0.5,4.5) J14(0.5,5.5) J15(0.5,6.5) J16(0.5,7.5) K1(1.5,-7.5) K2(1.5,-6.5) K3(1.5,-5.5) K4(1.5,-4.5) K5(1.5,-3.5) K6(1.5,-2.5) K7(1.5,-1.5) K8(1.5,-0.5) K9(1.5,0.5) K10(1.5,1.5) K11(1.5,2.5) K12(1.5,3.5) K13(1.5,4.5) K14(1.5,5.5) K15(1.5,6.5) K16(1.5,7.5) L1(2.5,-7.5) L2(2.5,-6.5) L3(2.5,-5.5) L4(2.5,-4.5) L5(2.5,-3.5) L6(2.5,-2.5) L7(2.5,-1.5) L8(2.5,-0.5) L9(2.5,0.5) L10(2.5,1.5) L11(2.5,2.5) L12(2.5,3.5) L13(2.5,4.5) L14(2.5,5.5) L15(2.5,6.5) L16(2.5,7.5) M1(3.5,-7.5) M2(3.5,-6.5) M3(3.5,-5.5) M4(3.5,-4.5) M5(3.5,-3.5) M6(3.5,-2.5) M7(3.5,-1.5) M8(3.5,-0.5) M9(3.5,0.5) M10(3.5,1.5) M11(3.5,2.5) M12(3.5,3.5) M13(3.5,4.5) M14(3.5,5.5) M15(3.5,6.5) M16(3.5,7.5) N1(4.5,-7.5) N2(4.5,-6.5) N3(4.5,-5.5) N4(4.5,-4.5) N5(4.5,-3.5) N6(4.5,-2.5) N7(4.5,-1.5) N8(4.5,-0.5) N9(4.5,0.5) N10(4.5,1.5) N11(4.5,2.5) N12(4.5,3.5) N13(4.5,4.5) N14(4.5,5.5) N15(4.5,6.5) N16(4.5,7.5) P1(5.5,-7.5) P2(5.5,-6.5) P3(5.5,-5.5) P4(5.5,-4.5) P5(5.5,-3.5) P6(5.5,-2.5) P7(5.5,-1.5) P8(5.5,-0.5) P9(5.5,0.5) P10(5.5,1.5) P11(5.5,2.5) P12(5.5,3.5) P13(5.5,4.5) P14(5.5,5.5) P15(5.5,6.5) P16(5.5,7.5) R1(6.5,-7.5) R2(6.5,-6.5) R3(6.5,-5.5) R4(6.5,-4.5) R5(6.5,-3.5) R6(6.5,-2.5) R7(6.5,-1.5) R8(6.5,-0.5) R9(6.5,0.5) R10(6.5,1.5) R11(6.5,2.5) R12(6.5,3.5) R13(6.5,4.5) R14(6.5,5.5) R15(6.5,6.5) R16(6.5,7.5) T1(7.5,-7.5) T2(7.5,-6.5) T3(7.5,-5.5) T4(7.5,-4.5) T5(7.5,-3.5) T6(7.5,-2.5) T7(7.5,-1.5) T8(7.5,-0.5) T9(7.5,0.5) T10(7.5,1.5) T11(7.5,2.5) T12(7.5,3.5) T13(7.5,4.5) T14(7.5,5.5) T15(7.5,6.5) T16(7.5,7.5)
Top Overlay:
  circle w0.25: c-9.05,-7.5 r0.125
  lines w0.15: -8.575,-8.575 -8.575,8.575 8.575,8.575 8.575,-8.575 -8.575,-8.575
Mechanical 9:
  lines w0.12: -8.55,-7.55 -7.55,-8.55 8.55,-8.55 8.55,8.55 -8.55,8.55 -8.55,-7.55
  text ".Designator" at -4.511,-0.453 h2
Mechanical 11:
  text ".Designator" at -2.704,-0.271 h1.2
Mechanical 15:
  lines w0.05: -9.55,-9.55 -9.55,9.55 9.55,9.55 9.55,-9.55 -9.55,-9.55
Mechanical 17:
  circle w0.05: c0,0 r0.25
  lines w0.05: -0.35,0 0.35,0 ; 0,-0.35 0,0.35
Mechanical 21:
  drawing of 260 lines, arcs and shapes, not listed
3D body "FBGA256.STEP": height 1.55, standoff 0, extent -8.5,-8.5 8.5,8.5

## LQFP48 [mm] "Quad Flat Pack (QFP), 0.50 mm pitch; 48 pin, square, 12 pin X 12 pin, 7.00 mm L X 7.00 mm W X 1.60 mm H body"
height 1.6
pads (48):
  rrect52% 0.27x1.15 smd: 1(-2.75,-4.125) 2(-2.25,-4.125) 3(-1.75,-4.125) 4(-1.25,-4.125) 5(-0.75,-4.125) 6(-0.25,-4.125) 7(0.25,-4.125) 8(0.75,-4.125) 9(1.25,-4.125) 10(1.75,-4.125) 11(2.25,-4.125) 12(2.75,-4.125) 25(2.75,4.125) 26(2.25,4.125) 27(1.75,4.125) 28(1.25,4.125) 29(0.75,4.125) 30(0.25,4.125) 31(-0.25,4.125) 32(-0.75,4.125) 33(-1.25,4.125) 34(-1.75,4.125) 35(-2.25,4.125) 36(-2.75,4.125)
  rrect52% 1.15x0.27 smd: 13(4.125,-2.75) 14(4.125,-2.25) 15(4.125,-1.75) 16(4.125,-1.25) 17(4.125,-0.75) 18(4.125,-0.25) 19(4.125,0.25) 20(4.125,0.75) 21(4.125,1.25) 22(4.125,1.75) 23(4.125,2.25) 24(4.125,2.75) 37(-4.125,2.75) 38(-4.125,2.25) 39(-4.125,1.75) 40(-4.125,1.25) 41(-4.125,0.75) 42(-4.125,0.25) 43(-4.125,-0.25) 44(-4.125,-0.75) 45(-4.125,-1.25) 46(-4.125,-1.75) 47(-4.125,-2.25) 48(-4.125,-2.75)
Top Overlay:
  circle w0.2: c-3.205,-4.5 r0.1
  lines w0.12: -3.66,-3.065 -3.66,-3.66 -3.065,-3.66 ; -3.66,3.065 -3.66,3.66 -3.065,3.66 ; 3.065,-3.66 3.66,-3.66 3.66,-3.065 ; 3.065,3.66 3.66,3.66 3.66,3.065
Mechanical 9:
  lines w0.12: -3.6,-2.6 -3.6,3.6 3.6,3.6 3.6,-3.6 -2.6,-3.6 -3.6,-2.6
  text ".Designator" at -4.511,-0.453 h2
Mechanical 11:
  text ".Designator" at -2.252,-0.226 h1
Mechanical 15:
  lines w0.05: -4.8,-2.985 -3.72,-2.985 -3.72,-3.72 -2.985,-3.72 -2.985,-4.8 2.985,-4.8 2.985,-3.72 3.72,-3.72 3.72,-2.985 4.8,-2.985 4.8,2.985 3.72,2.985 3.72,3.72 2.985,3.72 2.985,4.8 -2.985,4.8 -2.985,3.72 -3.72,3.72 -3.72,2.985 -4.8,2.985 -4.8,-2.985
Mechanical 17:
  circle w0.05: c0,0 r0.25
  lines w0.05: -0.35,0 0.35,0 ; 0,-0.35 0,0.35
Mechanical 21:
  drawing of 196 lines, arcs and shapes, not listed
3D body "LQFP48.STEP": height 1.6, standoff 0, extent -4.5,-4.5 4.5,4.5

## LQFP64 [mm] "Quad Flat Pack (QFP), 0.50 mm pitch; 64 pin, square, 16 pin X 16 pin, 10.00 mm L X 10.00 mm W X 1.60 mm H body"
height 1.6
pads (64):
  rrect52% 0.27x1.15 smd: 1(-3.75,-5.625) 2(-3.25,-5.625) 3(-2.75,-5.625) 4(-2.25,-5.625) 5(-1.75,-5.625) 6(-1.25,-5.625) 7(-0.75,-5.625) 8(-0.25,-5.625) 9(0.25,-5.625) 10(0.75,-5.625) 11(1.25,-5.625) 12(1.75,-5.625) 13(2.25,-5.625) 14(2.75,-5.625) 15(3.25,-5.625) 16(3.75,-5.625) 33(3.75,5.625) 34(3.25,5.625) 35(2.75,5.625) 36(2.25,5.625) 37(1.75,5.625) 38(1.25,5.625) 39(0.75,5.625) 40(0.25,5.625) 41(-0.25,5.625) 42(-0.75,5.625) 43(-1.25,5.625) 44(-1.75,5.625) 45(-2.25,5.625) 46(-2.75,5.625) 47(-3.25,5.625) 48(-3.75,5.625)
  rrect52% 1.15x0.27 smd: 17(5.625,-3.75) 18(5.625,-3.25) 19(5.625,-2.75) 20(5.625,-2.25) 21(5.625,-1.75) 22(5.625,-1.25) 23(5.625,-0.75) 24(5.625,-0.25) 25(5.625,0.25) 26(5.625,0.75) 27(5.625,1.25) 28(5.625,1.75) 29(5.625,2.25) 30(5.625,2.75) 31(5.625,3.25) 32(5.625,3.75) 49(-5.625,3.75) 50(-5.625,3.25) 51(-5.625,2.75) 52(-5.625,2.25) 53(-5.625,1.75) 54(-5.625,1.25) 55(-5.625,0.75) 56(-5.625,0.25) 57(-5.625,-0.25) 58(-5.625,-0.75) 59(-5.625,-1.25) 60(-5.625,-1.75) 61(-5.625,-2.25) 62(-5.625,-2.75) 63(-5.625,-3.25) 64(-5.625,-3.75)
Top Overlay:
  circle w0.2: c-4.205,-6 r0.1
  lines w0.12: -5.16,-4.065 -5.16,-5.16 -4.065,-5.16 ; -5.16,4.065 -5.16,5.16 -4.065,5.16 ; 4.065,-5.16 5.16,-5.16 5.16,-4.065 ; 4.065,5.16 5.16,5.16 5.16,4.065
Mechanical 9:
  lines w0.12: -5.1,-4.1 -5.1,5.1 5.1,5.1 5.1,-5.1 -4.1,-5.1 -5.1,-4.1
  text ".Designator" at -4.511,-0.453 h2
Mechanical 11:
  text ".Designator" at -2.252,-0.226 h1
Mechanical 15:
  lines w0.05: -6.3,-3.985 -5.22,-3.985 -5.22,-5.22 -3.985,-5.22 -3.985,-6.3 3.985,-6.3 3.985,-5.22 5.22,-5.22 5.22,-3.985 6.3,-3.985 6.3,3.985 5.22,3.985 5.22,5.22 3.985,5.22 3.985,6.3 -3.985,6.3 -3.985,5.22 -5.22,5.22 -5.22,3.985 -6.3,3.985 -6.3,-3.985
Mechanical 17:
  circle w0.05: c0,0 r0.25
  lines w0.05: -0.35,0 0.35,0 ; 0,-0.35 0,0.35
Mechanical 21:
  drawing of 260 lines, arcs and shapes, not listed
3D body "LQFP64.STEP": height 1.6, standoff 0, extent -6,-6 6,6

## LQFP80 [mm] "Quad Flat Pack (QFP), 0.50 mm pitch; 80 pin, square, 20 pin X 20 pin, 12.00 mm L X 12.00 mm W X 1.60 mm H body"
height 1.6
pads (80):
  rrect52% 0.27x1.15 smd: 1(-4.75,-6.625) 2(-4.25,-6.625) 3(-3.75,-6.625) 4(-3.25,-6.625) 5(-2.75,-6.625) 6(-2.25,-6.625) 7(-1.75,-6.625) 8(-1.25,-6.625) 9(-0.75,-6.625) 10(-0.25,-6.625) 11(0.25,-6.625) 12(0.75,-6.625) 13(1.25,-6.625) 14(1.75,-6.625) 15(2.25,-6.625) 16(2.75,-6.625) 17(3.25,-6.625) 18(3.75,-6.625) 19(4.25,-6.625) 20(4.75,-6.625) 41(4.75,6.625) 42(4.25,6.625) 43(3.75,6.625) 44(3.25,6.625) 45(2.75,6.625) 46(2.25,6.625) 47(1.75,6.625) 48(1.25,6.625) 49(0.75,6.625) 50(0.25,6.625) 51(-0.25,6.625) 52(-0.75,6.625) 53(-1.25,6.625) 54(-1.75,6.625) 55(-2.25,6.625) 56(-2.75,6.625) 57(-3.25,6.625) 58(-3.75,6.625) 59(-4.25,6.625) 60(-4.75,6.625)
  rrect52% 1.15x0.27 smd: 21(6.625,-4.75) 22(6.625,-4.25) 23(6.625,-3.75) 24(6.625,-3.25) 25(6.625,-2.75) 26(6.625,-2.25) 27(6.625,-1.75) 28(6.625,-1.25) 29(6.625,-0.75) 30(6.625,-0.25) 31(6.625,0.25) 32(6.625,0.75) 33(6.625,1.25) 34(6.625,1.75) 35(6.625,2.25) 36(6.625,2.75) 37(6.625,3.25) 38(6.625,3.75) 39(6.625,4.25) 40(6.625,4.75) 61(-6.625,4.75) 62(-6.625,4.25) 63(-6.625,3.75) 64(-6.625,3.25) 65(-6.625,2.75) 66(-6.625,2.25) 67(-6.625,1.75) 68(-6.625,1.25) 69(-6.625,0.75) 70(-6.625,0.25) 71(-6.625,-0.25) 72(-6.625,-0.75) 73(-6.625,-1.25) 74(-6.625,-1.75) 75(-6.625,-2.25) 76(-6.625,-2.75) 77(-6.625,-3.25) 78(-6.625,-3.75) 79(-6.625,-4.25) 80(-6.625,-4.75)
Top Overlay:
  circle w0.2: c-5.205,-7 r0.1
  lines w0.12: -6.16,-5.065 -6.16,-6.16 -5.065,-6.16 ; -6.16,5.065 -6.16,6.16 -5.065,6.16 ; 5.065,-6.16 6.16,-6.16 6.16,-5.065 ; 5.065,6.16 6.16,6.16 6.16,5.065
Mechanical 9:
  lines w0.12: -6.1,-5.1 -6.1,6.1 6.1,6.1 6.1,-6.1 -5.1,-6.1 -6.1,-5.1
  text ".Designator" at -4.511,-0.453 h2
Mechanical 11:
  text ".Designator" at -2.252,-0.226 h1
Mechanical 15:
  lines w0.05: -7.3,-4.985 -6.22,-4.985 -6.22,-6.22 -4.985,-6.22 -4.985,-7.3 4.985,-7.3 4.985,-6.22 6.22,-6.22 6.22,-4.985 7.3,-4.985 7.3,4.985 6.22,4.985 6.22,6.22 4.985,6.22 4.985,7.3 -4.985,7.3 -4.985,6.22 -6.22,6.22 -6.22,4.985 -7.3,4.985 -7.3,-4.985
Mechanical 17:
  circle w0.05: c0,0 r0.25
  lines w0.05: -0.35,0 0.35,0 ; 0,-0.35 0,0.35
Mechanical 21:
  drawing of 324 lines, arcs and shapes, not listed
3D body "LQFP80.STEP": height 1.6, standoff 0, extent -7,-7 7,7

## LQFP100 [mm] "Quad Flat Pack (QFP), 0.50 mm pitch; 100 pin, square, 25 pin X 25 pin, 14.00 mm L X 14.00 mm W X 1.60 mm H body"
height 1.6
pads (100):
  rrect52% 0.27x1.15 smd: 1(-6,-7.625) 2(-5.5,-7.625) 3(-5,-7.625) 4(-4.5,-7.625) 5(-4,-7.625) 6(-3.5,-7.625) 7(-3,-7.625) 8(-2.5,-7.625) 9(-2,-7.625) 10(-1.5,-7.625) 11(-1,-7.625) 12(-0.5,-7.625) 13(0,-7.625) 14(0.5,-7.625) 15(1,-7.625) 16(1.5,-7.625) 17(2,-7.625) 18(2.5,-7.625) 19(3,-7.625) 20(3.5,-7.625) 21(4,-7.625) 22(4.5,-7.625) 23(5,-7.625) 24(5.5,-7.625) 25(6,-7.625) 51(6,7.625) 52(5.5,7.625) 53(5,7.625) 54(4.5,7.625) 55(4,7.625) 56(3.5,7.625) 57(3,7.625) 58(2.5,7.625) 59(2,7.625) 60(1.5,7.625) 61(1,7.625) 62(0.5,7.625) 63(0,7.625) 64(-0.5,7.625) 65(-1,7.625) 66(-1.5,7.625) 67(-2,7.625) 68(-2.5,7.625) 69(-3,7.625) 70(-3.5,7.625) 71(-4,7.625) 72(-4.5,7.625) 73(-5,7.625) 74(-5.5,7.625) 75(-6,7.625)
  rrect52% 1.15x0.27 smd: 26(7.625,-6) 27(7.625,-5.5) 28(7.625,-5) 29(7.625,-4.5) 30(7.625,-4) 31(7.625,-3.5) 32(7.625,-3) 33(7.625,-2.5) 34(7.625,-2) 35(7.625,-1.5) 36(7.625,-1) 37(7.625,-0.5) 38(7.625,0) 39(7.625,0.5) 40(7.625,1) 41(7.625,1.5) 42(7.625,2) 43(7.625,2.5) 44(7.625,3) 45(7.625,3.5) 46(7.625,4) 47(7.625,4.5) 48(7.625,5) 49(7.625,5.5) 50(7.625,6) 76(-7.625,6) 77(-7.625,5.5) 78(-7.625,5) 79(-7.625,4.5) 80(-7.625,4) 81(-7.625,3.5) 82(-7.625,3) 83(-7.625,2.5) 84(-7.625,2) 85(-7.625,1.5) 86(-7.625,1) 87(-7.625,0.5) 88(-7.625,0) 89(-7.625,-0.5) 90(-7.625,-1) 91(-7.625,-1.5) 92(-7.625,-2) 93(-7.625,-2.5) 94(-7.625,-3) 95(-7.625,-3.5) 96(-7.625,-4) 97(-7.625,-4.5) 98(-7.625,-5) 99(-7.625,-5.5) 100(-7.625,-6)
Top Overlay:
  circle w0.2: c-6.455,-8 r0.1
  lines w0.12: -7.16,-6.315 -7.16,-7.16 -6.315,-7.16 ; -7.16,6.315 -7.16,7.16 -6.315,7.16 ; 6.315,-7.16 7.16,-7.16 7.16,-6.315 ; 6.315,7.16 7.16,7.16 7.16,6.315
Mechanical 9:
  lines w0.12: -7.1,-6.1 -7.1,7.1 7.1,7.1 7.1,-7.1 -6.1,-7.1 -7.1,-6.1
  text ".Designator" at -4.511,-0.453 h2
Mechanical 11:
  text ".Designator" at -2.252,-0.226 h1
Mechanical 15:
  lines w0.05: -8.3,-6.235 -7.22,-6.235 -7.22,-7.22 -6.235,-7.22 -6.235,-8.3 6.235,-8.3 6.235,-7.22 7.22,-7.22 7.22,-6.235 8.3,-6.235 8.3,6.235 7.22,6.235 7.22,7.22 6.235,7.22 6.235,8.3 -6.235,8.3 -6.235,7.22 -7.22,7.22 -7.22,6.235 -8.3,6.235 -8.3,-6.235
Mechanical 17:
  circle w0.05: c0,0 r0.25
  lines w0.05: -0.35,0 0.35,0 ; 0,-0.35 0,0.35
Mechanical 21:
  drawing of 404 lines, arcs and shapes, not listed
3D body "LQFP100.STEP": height 1.6, standoff 0, extent -8,-8 8,8